# Altium footprint library 100nF.PcbLib: 1 footprints
Each footprint in its own frame and in the unit in brackets; x right, y up, seen from the top. Pads: shape width x height; smd on the part's side, far side on the other; paste and mask are expansions set on the pad; w line width, h text height; cw(c..) or ccw(c..) is an arc to the next point about the centre after c.
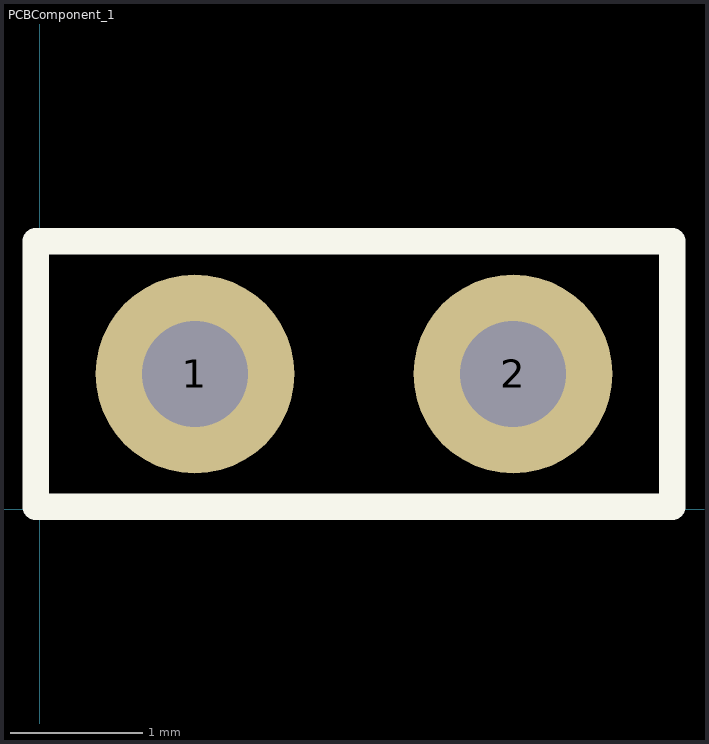
[diagram p0: the footprint, top view; thin cyan lines are the x and y axes]

## PCBComponent_1 [mm]
pads (2):
  round 1.5 hole 0.8: 1(1.172,1.021) 2(3.572,1.021)
Top Overlay:
  lines w0.2: -0.028,0.021 -0.028,2.021 4.772,2.021 4.772,0.021 -0.028,0.021
3D body "User Library-Ceramic Capacitor 5x3_75mm.step": height 5.46, standoff -3.5, extent -0.086,0.021 4.831,2.021